# Altium footprint library SW_1825027-5.PcbLib: 1 footprints
Each footprint in its own frame and in the unit in brackets; x right, y up, seen from the top. Pads: shape width x height; smd on the part's side, far side on the other; paste and mask are expansions set on the pad; w line width, h text height; cw(c..) or ccw(c..) is an arc to the next point about the centre after c.
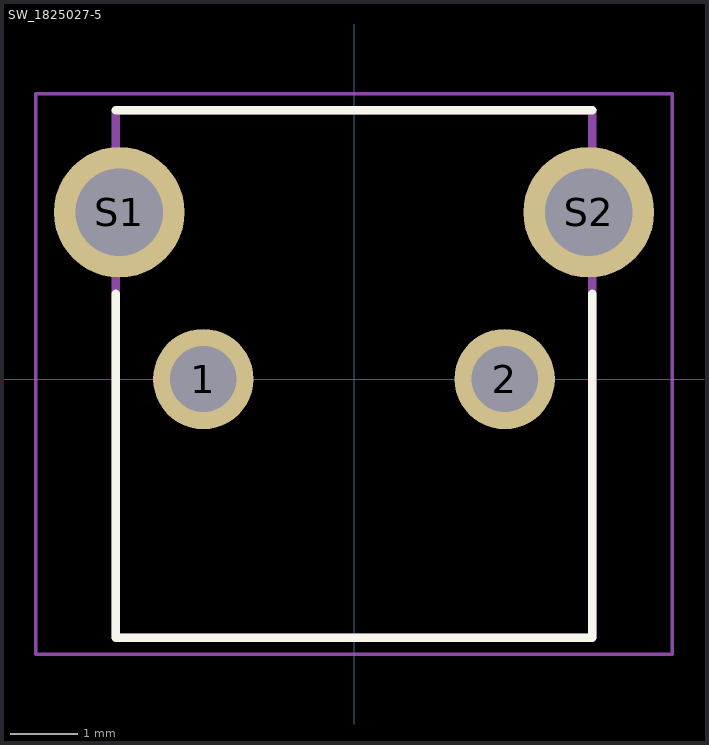
[diagram p0: the footprint, top view; thin cyan lines are the x and y axes]

## SW_1825027-5 [mm]
pads (4):
  round 1.498 hole 0.99: 1(-2.25,0) 2(2.25,0)
  round 1.95 hole 1.3: S1(-3.505,2.49) S2(3.505,2.49)
Top Overlay:
  lines w0.127: -3.555,1.27 -3.555,-3.86 3.555,-3.86 3.555,1.27 ; -3.555,4.01 3.555,4.01
Mechanical 13:
  lines w0.127: -3.555,-3.86 3.555,-3.86 3.555,4.01 -3.555,4.01 -3.555,-3.86
Mechanical 15:
  lines w0.05: -4.75,-4.11 4.75,-4.11 4.75,4.26 -4.75,4.26 -4.75,-4.11
3D body "1825027-5.stp": height 6.01, standoff -4.51, extent -4.331,-3.912 4.077,3.95